# Altium footprint library Connectors - Rectangular Direct Wire to Board.PcbLib: 7 footprints
Each footprint in its own frame and in the unit in brackets; x right, y up, seen from the top. Pads: shape width x height; smd on the part's side, far side on the other; paste and mask are expansions set on the pad; w line width, h text height; cw(c..) or ccw(c..) is an arc to the next point about the centre after c.
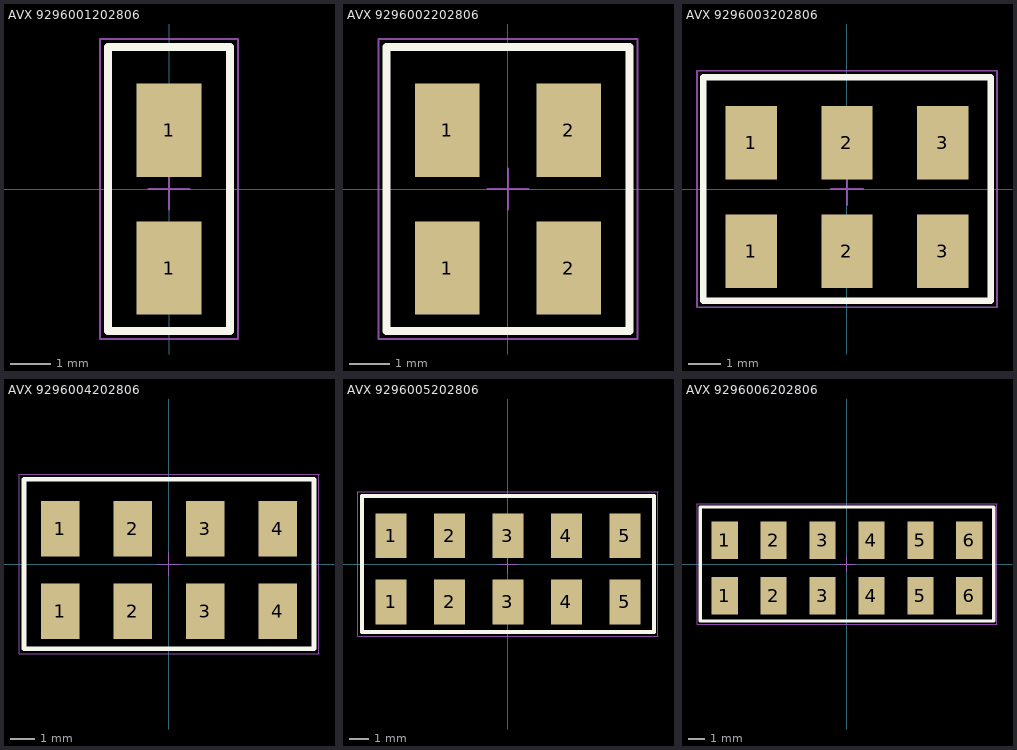
[diagram p0: the footprints below, top view; thin cyan lines are the x and y axes]

## AVX 9296001202806 [mm] "POKE-HOME: LOW PROFILE HORIZONTAL"
height 2.55
pads (2):
  rect 1.6x2.3 smd: 1(0,-1.95) 1(0,1.45)
Top Overlay:
  lines w0.2: -1.5,-3.5 -1.5,3.5 1.5,3.5 1.5,-3.5 -1.5,-3.5
Mechanical 13:
  lines w0.1: -1.5,-3.5 1.5,-3.5 1.5,3.5 -1.5,3.5 -1.5,-3.5
Mechanical 15:
  lines w0.05: -0.5,0 0.5,0 ; 0,-0.5 0,0.5 ; -1.7,-3.7 1.7,-3.7 1.7,3.7 -1.7,3.7 -1.7,-3.7
3D body "AVX 9296 9296001202806.step": height 2.55, standoff 0, extent -1.5,-3.5 1.5,3.5

## AVX 9296002202806 [mm] "POKE-HOME: LOW PROFILE HORIZONTAL"
height 2.55
pads (4):
  rect 1.6x2.3 smd: 1(-1.5,-1.95) 1(-1.5,1.45) 2(1.5,-1.95) 2(1.5,1.45)
Top Overlay:
  lines w0.2: -3,-3.5 -3,3.5 3,3.5 3,-3.5 -3,-3.5
Mechanical 13:
  lines w0.1: -3,-3.5 3,-3.5 3,3.5 -3,3.5 -3,-3.5
Mechanical 15:
  lines w0.05: -0.5,0 0.5,0 ; 0,-0.5 0,0.5 ; -3.2,-3.7 3.2,-3.7 3.2,3.7 -3.2,3.7 -3.2,-3.7
3D body "AVX 9296 9296002202906.step": height 2.55, standoff 0, extent -3,-3.5 3,3.5

## AVX 9296003202806 [mm] "POKE-HOME: LOW PROFILE HORIZONTAL"
height 2.55
pads (6):
  rect 1.6x2.3 smd: 1(-3,-1.95) 1(-3,1.45) 2(0,-1.95) 2(0,1.45) 3(3,-1.95) 3(3,1.45)
Top Overlay:
  lines w0.2: -4.5,-3.5 -4.5,3.5 4.5,3.5 4.5,-3.5 -4.5,-3.5
Mechanical 13:
  lines w0.1: -4.5,-3.5 4.5,-3.5 4.5,3.5 -4.5,3.5 -4.5,-3.5
Mechanical 15:
  lines w0.05: -0.5,0 0.5,0 ; 0,-0.5 0,0.5 ; -4.7,-3.7 4.7,-3.7 4.7,3.7 -4.7,3.7 -4.7,-3.7
3D body "AVX 9296 9296003202906.step": height 2.55, standoff 0, extent -4.5,-3.5 4.5,3.5

## AVX 9296004202806 [mm] "POKE-HOME: LOW PROFILE HORIZONTAL"
height 2.55
pads (8):
  rect 1.6x2.3 smd: 1(-4.5,-1.95) 1(-4.5,1.45) 2(-1.5,-1.95) 2(-1.5,1.45) 3(1.5,-1.95) 3(1.5,1.45) 4(4.5,-1.95) 4(4.5,1.45)
Top Overlay:
  lines w0.2: -6,-3.5 -6,3.5 6,3.5 6,-3.5 -6,-3.5
Mechanical 13:
  lines w0.1: -6,-3.5 6,-3.5 6,3.5 -6,3.5 -6,-3.5
Mechanical 15:
  lines w0.05: -0.5,0 0.5,0 ; 0,-0.5 0,0.5 ; -6.2,-3.7 6.2,-3.7 6.2,3.7 -6.2,3.7 -6.2,-3.7
3D body "AVX 9296 9296004202906.step": height 2.55, standoff 0, extent -6,-3.5 6,3.5

## AVX 9296005202806 [mm] "POKE-HOME: LOW PROFILE HORIZONTAL"
height 2.55
pads (10):
  rect 1.6x2.3 smd: 1(-6,-1.95) 1(-6,1.45) 2(-3,-1.95) 2(-3,1.45) 3(0,-1.95) 3(0,1.45) 4(3,-1.95) 4(3,1.45) 5(6,-1.95) 5(6,1.45)
Top Overlay:
  lines w0.2: -7.5,-3.5 -7.5,3.5 7.5,3.5 7.5,-3.5 -7.5,-3.5
Mechanical 13:
  lines w0.1: -7.5,-3.5 7.5,-3.5 7.5,3.5 -7.5,3.5 -7.5,-3.5
Mechanical 15:
  lines w0.05: -0.5,0 0.5,0 ; 0,-0.5 0,0.5 ; -7.7,-3.7 7.7,-3.7 7.7,3.7 -7.7,3.7 -7.7,-3.7
3D body "AVX 9296 9296005202906.step": height 2.55, standoff 0, extent -7.5,-3.5 7.5,3.5

## AVX 9296006202806 [mm] "POKE-HOME: LOW PROFILE HORIZONTAL"
height 2.55
pads (12):
  rect 1.6x2.3 smd: 1(-7.5,-1.95) 1(-7.5,1.45) 2(-4.5,-1.95) 2(-4.5,1.45) 3(-1.5,-1.95) 3(-1.5,1.45) 4(1.5,-1.95) 4(1.5,1.45) 5(4.5,-1.95) 5(4.5,1.45) 6(7.5,-1.95) 6(7.5,1.45)
Top Overlay:
  lines w0.2: -9,-3.5 -9,3.5 9,3.5 9,-3.5 -9,-3.5
Mechanical 13:
  lines w0.1: -9,-3.5 9,-3.5 9,3.5 -9,3.5 -9,-3.5
Mechanical 15:
  lines w0.05: -0.5,0 0.5,0 ; 0,-0.5 0,0.5 ; -9.2,-3.7 9.2,-3.7 9.2,3.7 -9.2,3.7 -9.2,-3.7
3D body "AVX 9296 9296006202906.step": height 2.55, standoff 0, extent -9,-3.5 9,3.5

## PCBComponent_1 [mm]